# Altium schematic symbol library PCA9685PW.SCHLIB: 1 symbol
Pins are listed as number, name and electrical type; pins without a type are passive.

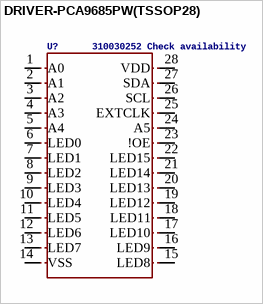
[diagram p0: symbol DRIVER-PCA9685PW(TSSOP28)]

## DRIVER-PCA9685PW(TSSOP28)
designator U?, comment 310030252 Check availability
GateName_1: G$1; SymbolName_1: DRIVER-PCA9685PW; DeviceSetName: DRIVER-PCA9685PW(TSSOP28); MP: PCA9685PW; MF: NXP USA; Description: LED Driver IC 16 Output Linear - PWM Dimming 25mA 28-TSSOP; LibraryName: PCA9685PW; Package: None; Price: None; Availability: In Stock; Purchase-URL: https://pricing.snapeda.com/search/part/PCA9685PW/?ref=eda
footprint TSSOP28-0.65-9.7X4.4MM
pins: 1 A0, 2 A1, 3 A2, 4 A3, 5 A4, 6 LED0, 7 LED1, 8 LED2, 9 LED3, 10 LED4, 11 LED5, 12 LED6, 13 LED7, 14 VSS, 15 LED8, 16 LED9, 17 LED10, 18 LED11, 19 LED12, 20 LED13, 21 LED14, 22 LED15, 23 !OE, 24 A5, 25 EXTCLK, 26 SCL, 27 SDA, 28 VDD